# EAGLE library part PCA9685PW (library One_Dimensional_Pong)
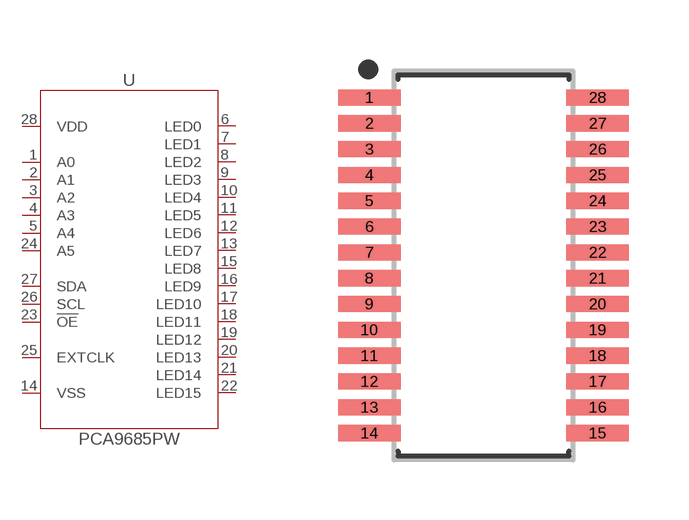
[diagram p0: symbol with the pads of SOP65P640X110-28; footprint SOP65P640X110-28]

Designator prefix U

## PCA9685PWSSOP-28 (MANUFACTURER_PART_NUMBER: PCA9685PW; VENDOR: NXP)  [SOP65P640X110-28]
1  A0  pas
2  A1  pas
3  A2  pas
4  A3  pas
5  A4  pas
6  LED0  pas
7  LED1  pas
8  LED2  pas
9  LED3  pas
10  LED4  pas
11  LED5  pas
12  LED6  pas
13  LED7  pas
14  VSS  pas
15  LED8  pas
16  LED9  pas
17  LED10  pas
18  LED11  pas
19  LED12  pas
20  LED13  pas
21  LED14  pas
22  LED15  pas
23  !OE  pas
24  A5  pas
25  EXTCLK  pas
26  SCL  pas
27  SDA  pas
28  VDD  pas

## Footprint SOP65P640X110-28 (pad centres in mm)
28-SOP, 0.65 mm pitch, 6.40 mm span, 9.70 X 4.40 X 1.10 mm body 28-pin SOP package with 0.65 mm pitch, 6.40 mm span with body size 9.70 X 4.40 X 1.10 mm
smd 1.572 x 0.407: 1 -2.872,4.225; 2 -2.872,3.575; 3 -2.872,2.925; 4 -2.872,2.275; 5 -2.872,1.625; 6 -2.872,0.975; 7 -2.872,0.325; 8 -2.872,-0.325; 9 -2.872,-0.975; 10 -2.872,-1.625; 11 -2.872,-2.275; 12 -2.872,-2.925; 13 -2.872,-3.575; 14 -2.872,-4.225; 15 2.872,-4.225; 16 2.872,-3.575; 17 2.872,-2.925; 18 2.872,-2.275; 19 2.872,-1.625; 20 2.872,-0.975; 21 2.872,-0.325; 22 2.872,0.325; 23 2.872,0.975; 24 2.872,1.625; 25 2.872,2.275; 26 2.872,2.925; 27 2.872,3.575; 28 2.872,4.225